# EAGLE library part LM73C-0 (library Traficon)
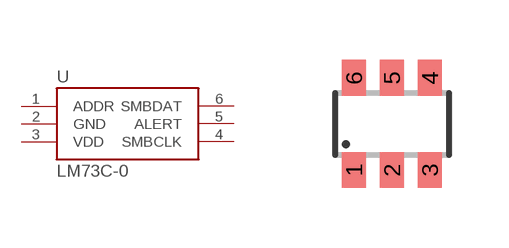
[diagram p197: symbol with the pads of SOT23-6; footprint SOT23-6]

Designator prefix U

## LM73C-0  [SOT23-6]
1  ADDR  in
2  GND  sup
3  VDD  sup
4  SMBCLK  in
5  ALERT  out
6  SMBDAT

## Footprint SOT23-6 (pad centres in mm)
Small Outline Transistor 6 lead
smd 0.6 x 0.9: 1 -0.95,-1.15; 2 0,-1.15; 3 0.95,-1.15; 4 0.95,1.15; 5 0,1.15; 6 -0.95,1.15